# Altium footprint library 2019-08-14_06-14-56.PcbLib: 5 footprints
Each footprint in its own frame and in the unit in brackets; x right, y up, seen from the top. Pads: shape width x height; smd on the part's side, far side on the other; paste and mask are expansions set on the pad; w line width, h text height; cw(c..) or ccw(c..) is an arc to the next point about the centre after c.
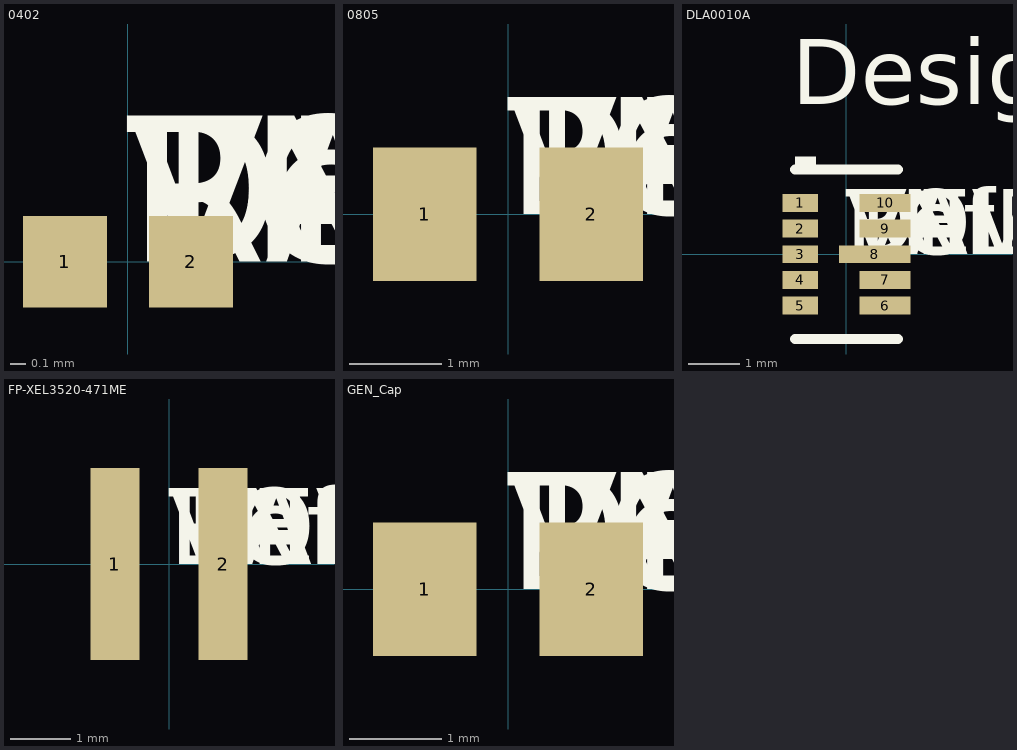
[diagram p0: the footprints below, top view; thin cyan lines are the x and y axes]

## 0402 [mil]
pads (2):
  rect 22x24 smd: 1(-16.5,0) 2(16.5,0)
Top Overlay:
  text "RefDes" at 0,0 h50
  text "DEV" at 0,0 h50
  text "PN" at 0,0 h50
  text "DEV" at 0,0 h50
  text "VAL" at 0,0 h50
  text "TOL" at 0,0 h50
3D body "0402.stp": height 22, standoff 0, extent -21.5,-12 21.5,12

## 0805 [mil]
pads (2):
  rect 44x57 smd: 1(-35.5,0) 2(35.5,0)
Top Overlay:
  text "RefDes" at 0,0 h50
  text "DEV" at 0,0 h50
  text "PN" at 0,0 h50
  text "DEV" at 0,0 h50
  text "VAL" at 0,0 h50
  text "TOL" at 0,0 h50
3D body "0805.stp": height 57, standoff 0, extent -43.5,-28.5 43.5,28.5

## DLA0010A [mm]
pads (10):
  rect 0.7x0.35 smd paste-0.05 mask-0.051: 1(-0.9,1) 2(-0.9,0.5) 3(-0.9,0) 4(-0.9,-0.5) 5(-0.9,-1)
  rect 1x0.35 smd paste-0.05 mask-0.051: 6(0.75,-1) 7(0.75,-0.5) 9(0.75,0.5) 10(0.75,1)
  rect 1.4x0.35 smd paste-0.687 mask-0.051: 8(0.55,0)
Top Overlay:
  region: -1,1.9 -1,1.65 -0.6,1.65 -0.6,1.9
  lines w0.2: -1,-1.65 1,-1.65 ; -1,1.65 1,1.65
  text "Designator9" at -1.067,2.921 h1.27
  text "RefDes" at 0,0 h1.27
  text "DEV" at 0,0 h1.27
  text "PN" at 0,0 h1.27
  text "DEV" at 0,0 h1.27
  text "VAL" at 0,0 h1.27
  text "TOL" at 0,0 h1.27
Top Paste:
  region: -0.099,-0.085 -0.1,-0.075 -0.1,0.075 -0.099,0.085 -0.096,0.094 -0.092,0.103 -0.085,0.11 -0.078,0.117 -0.069,0.121 -0.06,0.124 -0.05,0.125 0.4,0.125 0.41,0.124 0.419,0.121 0.428,0.117 0.435,0.11 0.442,0.103 0.446,0.094 0.449,0.085 0.45,0.075 0.45,-0.075 0.449,-0.085 0.446,-0.094 0.442,-0.103 0.435,-0.11 0.428,-0.117 0.419,-0.121 0.41,-0.124 0.4,-0.125 -0.05,-0.125 -0.06,-0.124 -0.069,-0.121 -0.078,-0.117 -0.085,-0.11 -0.092,-0.103 -0.096,-0.094
  region: 0.651,-0.085 0.65,-0.075 0.65,0.075 0.651,0.085 0.654,0.094 0.658,0.103 0.665,0.11 0.672,0.117 0.681,0.121 0.69,0.124 0.7,0.125 1.15,0.125 1.16,0.124 1.169,0.121 1.178,0.117 1.185,0.11 1.192,0.103 1.196,0.094 1.199,0.085 1.2,0.075 1.2,-0.075 1.199,-0.085 1.196,-0.094 1.192,-0.103 1.185,-0.11 1.178,-0.117 1.169,-0.121 1.16,-0.124 1.15,-0.125 0.7,-0.125 0.69,-0.124 0.681,-0.121 0.672,-0.117 0.665,-0.11 0.658,-0.103 0.654,-0.094
3D body: height 0.25, standoff 0, extent 0,0 0.254,0.254

## FP-XEL3520-471ME [mm]
pads (2):
  rect 0.81x3.2 smd paste+0 mask+0: 1(-0.9,0) 2(0.9,0)
Top Overlay:
  text "RefDes" at 0,0 h1.27
  text "DEV" at 0,0 h1.27
  text "PN" at 0,0 h1.27
  text "DEV" at 0,0 h1.27
  text "VAL" at 0,0 h1.27
  text "TOL" at 0,0 h1.27
3D body: height 0.25, standoff 0, extent 0,0 0.254,0.254

## GEN_Cap [mil]
pads (2):
  rect 44x57 smd: 1(-35.5,0) 2(35.5,0)
Top Overlay:
  text "RefDes" at 0,0 h50
  text "DEV" at 0,0 h50
  text "PN" at 0,0 h50
  text "DEV" at 0,0 h50
  text "VAL" at 0,0 h50
  text "TOL" at 0,0 h50
3D body "GEN_Cap.stp": height 57, standoff 0, extent -43.5,-28.5 43.5,28.5